# Altium schematic symbol library burr-brown (2).SCHLIB: 341 symbols (part 3 of 3)
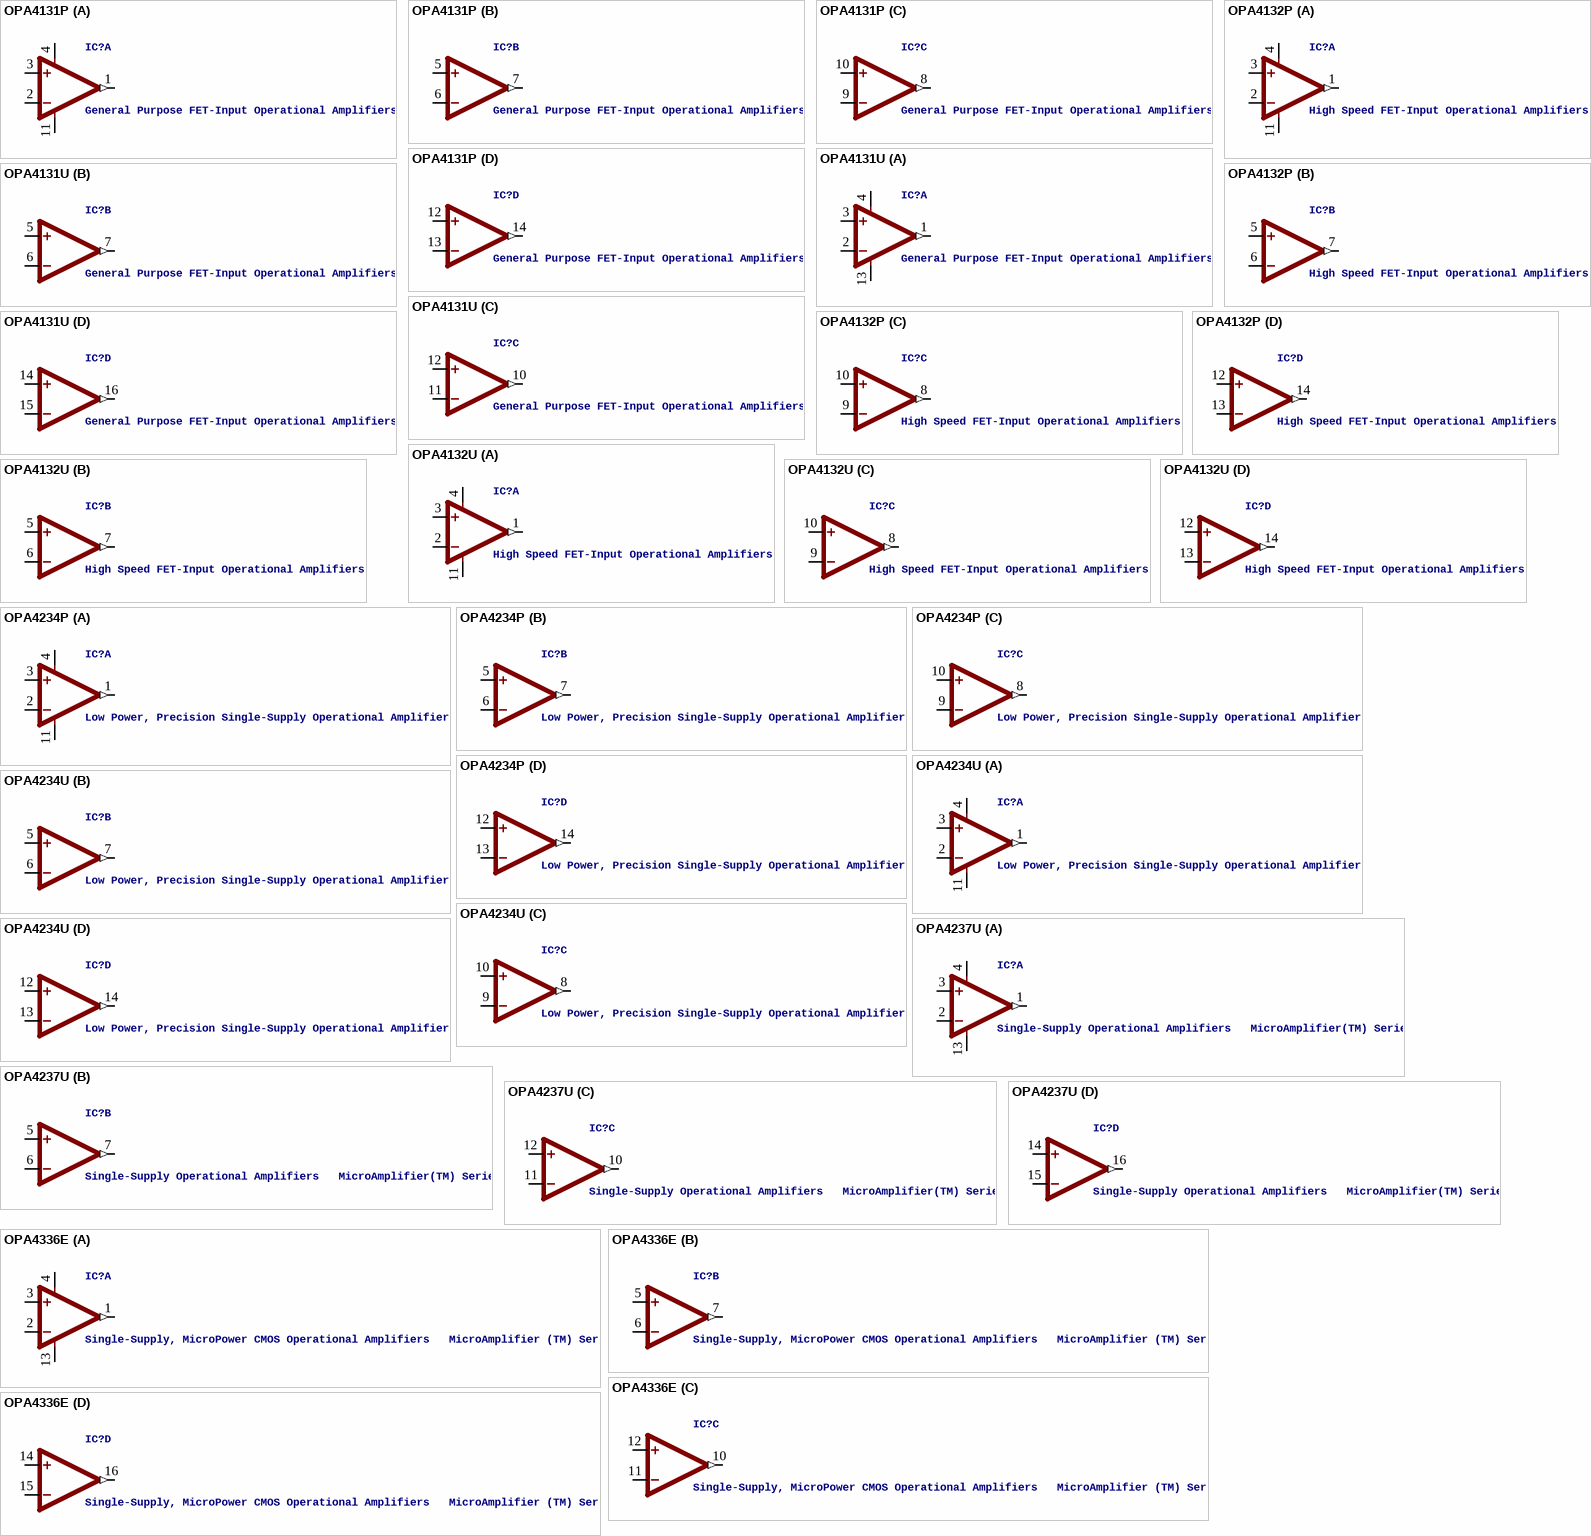
[diagram p24: symbols OPA4131P to OPA4336E]

## OPA4132U
designator IC?, comment High Speed FET-Input Operational Amplifiers
MPN: OPA4132UA; MF: TEXAS INSTRUMENTS; OC_FARNELL: 1212302; OC_NEWARK: 80K6028
footprint SO14
part A pins: 1 OUT (out), 2 -IN, 3 +IN, 4 V+ (power), 11 V- (power)
part B pins: 5 +IN, 6 -IN, 7 OUT (out)
part C pins: 8 OUT (out), 9 -IN, 10 +IN
part D pins: 12 +IN, 13 -IN, 14 OUT (out)

## OPA4234P
designator IC?, comment Low Power, Precision Single-Supply Operational Amplifiers
OC_FARNELL: unknown; OC_NEWARK: unknown
footprint DIL14
part A pins: 1 OUT (out), 2 -IN, 3 +IN, 4 V+ (power), 11 V- (power)
part B pins: 5 +IN, 6 -IN, 7 OUT (out)
part C pins: 8 OUT (out), 9 -IN, 10 +IN
part D pins: 12 +IN, 13 -IN, 14 OUT (out)

## OPA4234U
designator IC?, comment Low Power, Precision Single-Supply Operational Amplifiers
MPN: OPA4234U; MF: TEXAS INSTRUMENTS; OC_FARNELL: 1207058; OC_NEWARK: 75C4965
footprint SO14
part A pins: 1 OUT (out), 2 -IN, 3 +IN, 4 V+ (power), 11 V- (power)
part B pins: 5 +IN, 6 -IN, 7 OUT (out)
part C pins: 8 OUT (out), 9 -IN, 10 +IN
part D pins: 12 +IN, 13 -IN, 14 OUT (out)

## OPA4237U
designator IC?, comment Single-Supply Operational Amplifiers   MicroAmplifier(TM) Series
OC_FARNELL: unknown; OC_NEWARK: unknown
footprint SSOP16BU
part A pins: 1 OUT (out), 2 -IN, 3 +IN, 4 V+ (power), 13 V- (power)
part B pins: 5 +IN, 6 -IN, 7 OUT (out)
part C pins: 10 OUT (out), 11 -IN, 12 +IN
part D pins: 14 +IN, 15 -IN, 16 OUT (out)

## OPA4336E
designator IC?, comment Single-Supply, MicroPower CMOS Operational Amplifiers   MicroAmplifier (TM) Series
MPN: OPA4336EA/250; MF: TEXAS INSTRUMENTS; OC_FARNELL: 1207060; OC_NEWARK: 74K3911
footprint SSOP16BU
part A pins: 1 OUT (out), 2 -IN, 3 +IN, 4 V+ (power), 13 V- (power)
part B pins: 5 +IN, 6 -IN, 7 OUT (out)
part C pins: 10 OUT (out), 11 -IN, 12 +IN
part D pins: 14 +IN, 15 -IN, 16 OUT (out)

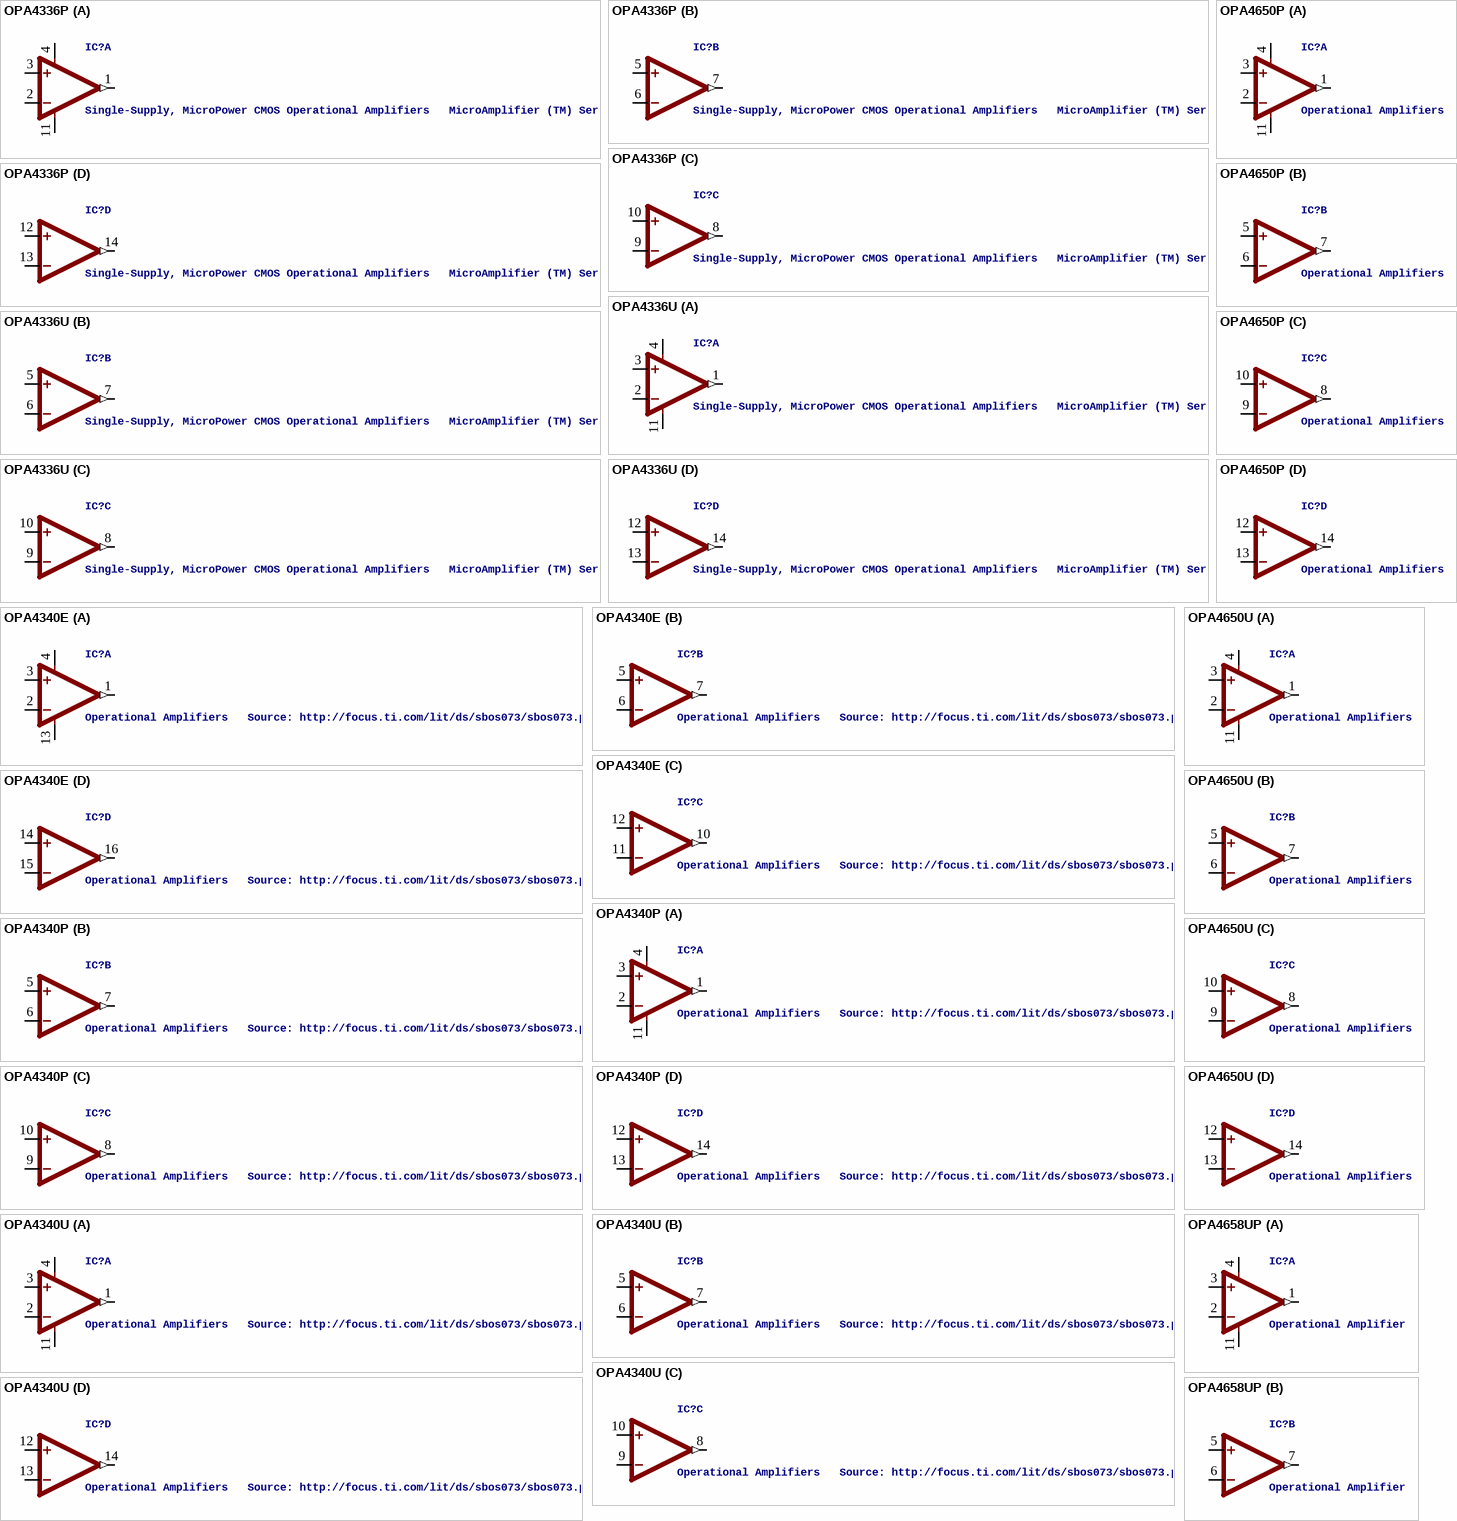
[diagram p18: symbols OPA4336P to OPA4658UP]

## OPA4336P
designator IC?, comment Single-Supply, MicroPower CMOS Operational Amplifiers   MicroAmplifier (TM) Series
OC_FARNELL: unknown; OC_NEWARK: unknown
footprint DIL14
part A pins: 1 OUT (out), 2 -IN, 3 +IN, 4 V+ (power), 11 V- (power)
part B pins: 5 +IN, 6 -IN, 7 OUT (out)
part C pins: 8 OUT (out), 9 -IN, 10 +IN
part D pins: 12 +IN, 13 -IN, 14 OUT (out)

## OPA4336U
designator IC?, comment Single-Supply, MicroPower CMOS Operational Amplifiers   MicroAmplifier (TM) Series
OC_FARNELL: unknown; OC_NEWARK: unknown
footprint SO14
part A pins: 1 OUT (out), 2 -IN, 3 +IN, 4 V+ (power), 11 V- (power)
part B pins: 5 +IN, 6 -IN, 7 OUT (out)
part C pins: 8 OUT (out), 9 -IN, 10 +IN
part D pins: 12 +IN, 13 -IN, 14 OUT (out)

## OPA4340E
designator IC?, comment Operational Amplifiers   Source: http://focus.ti.com/lit/ds/sbos073/sbos073.pdf
MPN: OPA4340EA/250G4; OC_FARNELL: 1207061; OC_NEWARK: 67K8209
footprint SSOP16BU
part A pins: 1 OUT (out), 2 -IN, 3 +IN, 4 V+ (power), 13 V- (power)
part B pins: 5 +IN, 6 -IN, 7 OUT (out)
part C pins: 10 OUT (out), 11 -IN, 12 +IN
part D pins: 14 +IN, 15 -IN, 16 OUT (out)

## OPA4340P
designator IC?, comment Operational Amplifiers   Source: http://focus.ti.com/lit/ds/sbos073/sbos073.pdf
OC_FARNELL: unknown; OC_NEWARK: unknown
footprint DIL14
part A pins: 1 OUT (out), 2 -IN, 3 +IN, 4 V+ (power), 11 V- (power)
part B pins: 5 +IN, 6 -IN, 7 OUT (out)
part C pins: 8 OUT (out), 9 -IN, 10 +IN
part D pins: 12 +IN, 13 -IN, 14 OUT (out)

## OPA4340U
designator IC?, comment Operational Amplifiers   Source: http://focus.ti.com/lit/ds/sbos073/sbos073.pdf
MPN: OPA4340UA; MF: TEXAS INSTRUMENTS; OC_FARNELL: 1212307; OC_NEWARK: 35C1907
footprint SO14
part A pins: 1 OUT (out), 2 -IN, 3 +IN, 4 V+ (power), 11 V- (power)
part B pins: 5 +IN, 6 -IN, 7 OUT (out)
part C pins: 8 OUT (out), 9 -IN, 10 +IN
part D pins: 12 +IN, 13 -IN, 14 OUT (out)

## OPA4650P
designator IC?, comment Operational Amplifiers
OC_FARNELL: unknown; OC_NEWARK: unknown
footprint DIL14
part A pins: 1 OUT (out), 2 -IN, 3 +IN, 4 V+ (power), 11 V- (power)
part B pins: 5 +IN, 6 -IN, 7 OUT (out)
part C pins: 8 OUT (out), 9 -IN, 10 +IN
part D pins: 12 +IN, 13 -IN, 14 OUT (out)

## OPA4650U
designator IC?, comment Operational Amplifiers
OC_FARNELL: unknown; OC_NEWARK: unknown
footprint SO14
part A pins: 1 OUT (out), 2 -IN, 3 +IN, 4 V+ (power), 11 V- (power)
part B pins: 5 +IN, 6 -IN, 7 OUT (out)
part C pins: 8 OUT (out), 9 -IN, 10 +IN
part D pins: 12 +IN, 13 -IN, 14 OUT (out)

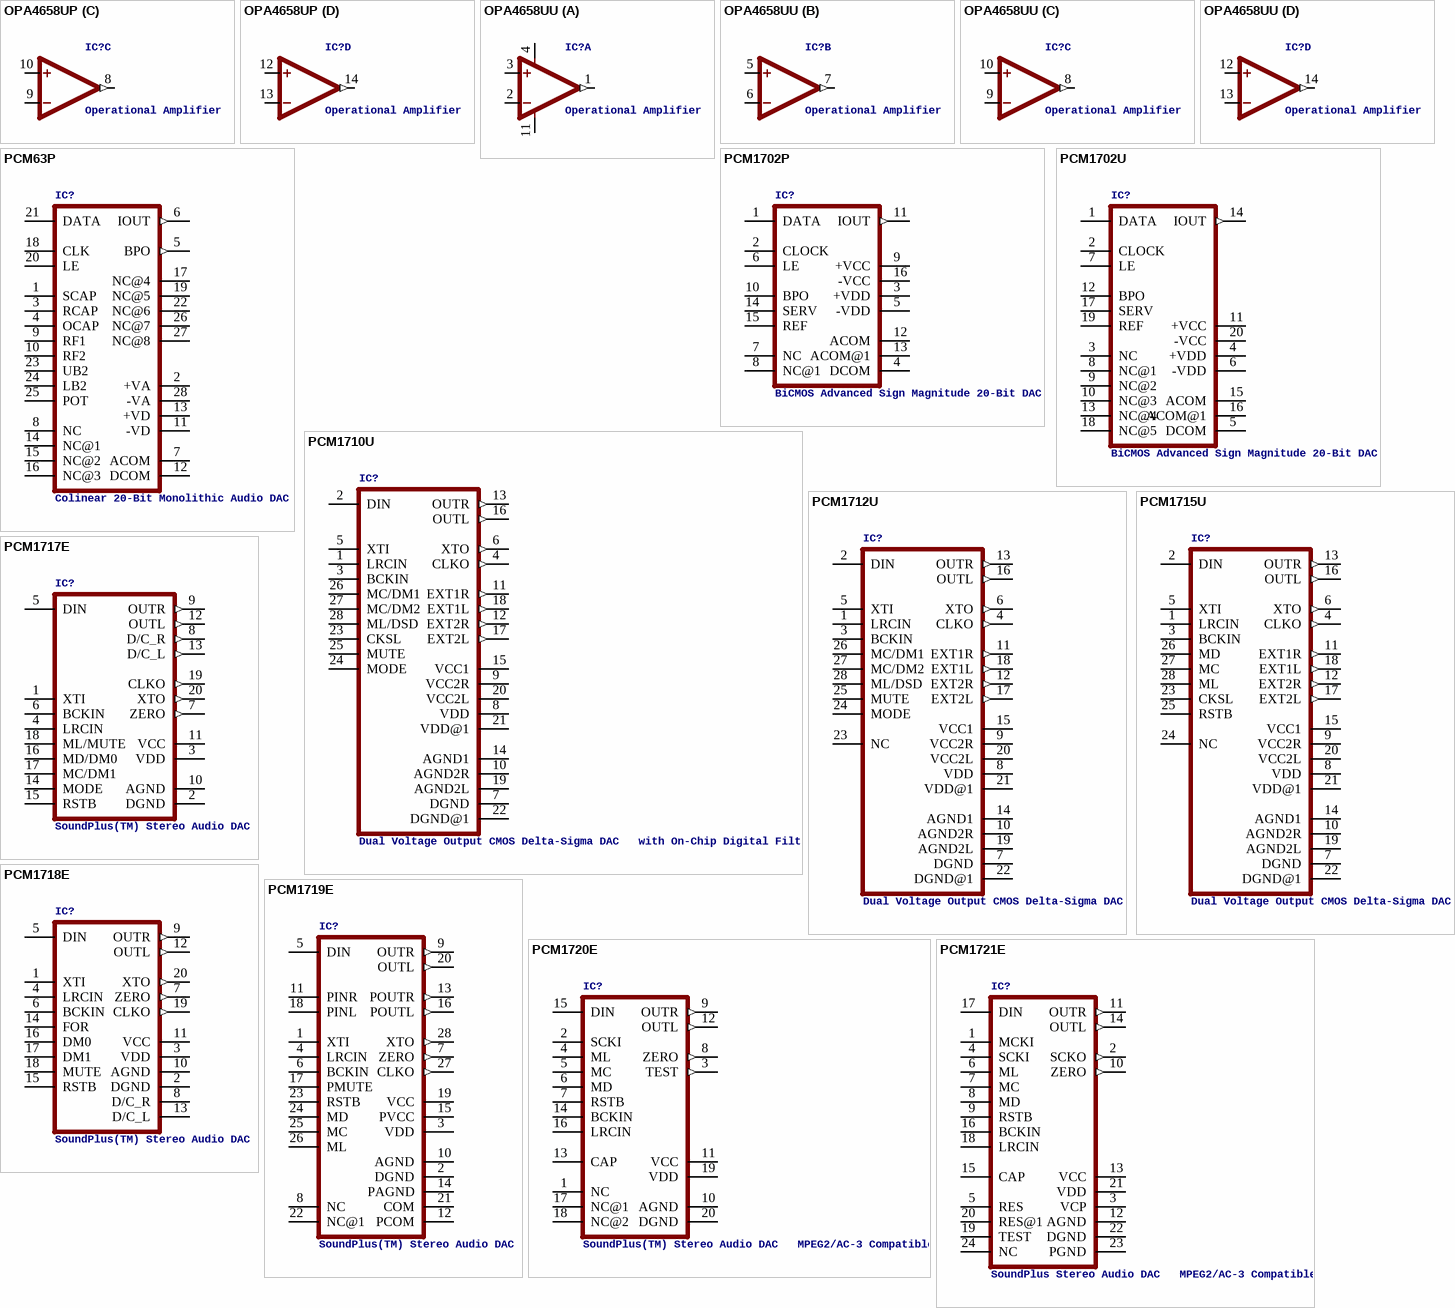
[diagram p19: symbols OPA4658UP to PCM1721E]

## OPA4658UP
designator IC?, comment Operational Amplifier
OC_FARNELL: unknown; OC_NEWARK: unknown
footprint DIL14
part A pins: 1 OUT (out), 2 -IN, 3 +IN, 4 V+ (power), 11 V- (power)
part B pins: 5 +IN, 6 -IN, 7 OUT (out)
part C pins: 8 OUT (out), 9 -IN, 10 +IN
part D pins: 12 +IN, 13 -IN, 14 OUT (out)

## OPA4658UU
designator IC?, comment Operational Amplifier
OC_FARNELL: unknown; OC_NEWARK: unknown
footprint SO14
part A pins: 1 OUT (out), 2 -IN, 3 +IN, 4 V+ (power), 11 V- (power)
part B pins: 5 +IN, 6 -IN, 7 OUT (out)
part C pins: 8 OUT (out), 9 -IN, 10 +IN
part D pins: 12 +IN, 13 -IN, 14 OUT (out)

## PCM63P
designator IC?, comment Colinear 20-Bit Monolithic Audio DAC
OC_FARNELL: unknown; OC_NEWARK: unknown
footprint DIL28
pins: 1 SCAP, 2 +VA (power), 3 RCAP, 4 OCAP, 5 BPO (out), 6 IOUT (out), 7 ACOM (power), 8 NC, 9 RF1, 10 RF2, 11 -VD (power), 12 DCOM (power), 13 +VD (power), 14 NC@1, 15 NC@2, 16 NC@3, 17 NC@4, 18 CLK, 19 NC@5, 20 LE, 21 DATA, 22 NC@6, 23 UB2, 24 LB2, 25 POT, 26 NC@7, 27 NC@8, 28 -VA (power)

## PCM1702P
designator IC?, comment BiCMOS Advanced Sign Magnitude 20-Bit DAC
MPN: PCM1702P-J; MF: TEXAS INSTRUMENT CONNECTORS; OC_FARNELL: 1509912; OC_NEWARK: 75C5298
footprint DIL16
pins: 1 DATA, 2 CLOCK, 3 +VDD (power), 4 DCOM (power), 5 -VDD (power), 6 LE, 7 NC, 8 NC@1, 9 +VCC (power), 10 BPO, 11 IOUT (out), 12 ACOM (power), 13 ACOM@1 (power), 14 SERV, 15 REF, 16 -VCC (power)

## PCM1702U
designator IC?, comment BiCMOS Advanced Sign Magnitude 20-Bit DAC
MPN: PCM1702U; MF: TEXAS INSTRUMENT CONNECTORS; OC_FARNELL: 1509914; OC_NEWARK: 75C5299
footprint SO20L
pins: 1 DATA, 2 CLOCK, 3 NC, 4 +VDD (power), 5 DCOM (power), 6 -VDD (power), 7 LE, 8 NC@1, 9 NC@2, 10 NC@3, 11 +VCC (power), 12 BPO, 13 NC@4, 14 IOUT (out), 15 ACOM (power), 16 ACOM@1 (power), 17 SERV, 18 NC@5, 19 REF, 20 -VCC (power)

## PCM1710U
designator IC?, comment Dual Voltage Output CMOS Delta-Sigma DAC   with On-Chip Digital Filter
MPN: PCM1710U; MF: TEXAS INSTRUMENT CONNECTORS; OC_FARNELL: 1212857; OC_NEWARK: 75C5309
footprint SO28-3
pins: 1 LRCIN, 2 DIN, 3 BCKIN, 4 CLKO (out), 5 XTI, 6 XTO (out), 7 DGND (power), 8 VDD (power), 9 VCC2R (power), 10 AGND2R (power), 11 EXT1R (out), 12 EXT2R (out), 13 OUTR (out), 14 AGND1 (power), 15 VCC1 (power), 16 OUTL (out), 17 EXT2L (out), 18 EXT1L (out), 19 AGND2L (power), 20 VCC2L (power), 21 VDD@1 (power), 22 DGND@1 (power), 23 CKSL, 24 MODE, 25 MUTE, 26 MC/DM1, 27 MC/DM2, 28 ML/DSD

## PCM1712U
designator IC?, comment Dual Voltage Output CMOS Delta-Sigma DAC
OC_FARNELL: unknown; OC_NEWARK: unknown
footprint SO28-3
pins: 1 LRCIN, 2 DIN, 3 BCKIN, 4 CLKO (out), 5 XTI, 6 XTO (out), 7 DGND (power), 8 VDD (power), 9 VCC2R (power), 10 AGND2R (power), 11 EXT1R (out), 12 EXT2R (out), 13 OUTR (out), 14 AGND1 (power), 15 VCC1 (power), 16 OUTL (out), 17 EXT2L (out), 18 EXT1L (out), 19 AGND2L (power), 20 VCC2L (power), 21 VDD@1 (power), 22 DGND@1 (power), 23 NC, 24 MODE, 25 MUTE, 26 MC/DM1, 27 MC/DM2, 28 ML/DSD

## PCM1715U
designator IC?, comment Dual Voltage Output CMOS Delta-Sigma DAC
OC_FARNELL: unknown; OC_NEWARK: unknown
footprint SOJ28-4
pins: 1 LRCIN, 2 DIN, 3 BCKIN, 4 CLKO (out), 5 XTI, 6 XTO (out), 7 DGND (power), 8 VDD (power), 9 VCC2R (power), 10 AGND2R (power), 11 EXT1R (out), 12 EXT2R (out), 13 OUTR (out), 14 AGND1 (power), 15 VCC1 (power), 16 OUTL (out), 17 EXT2L (out), 18 EXT1L (out), 19 AGND2L (power), 20 VCC2L (power), 21 VDD@1 (power), 22 DGND@1 (power), 23 CKSL, 24 NC, 25 RSTB, 26 MD, 27 MC, 28 ML

## PCM1717E
designator IC?, comment SoundPlus(TM) Stereo Audio DAC
MPN: PCM1717E; MF: TEXAS INSTRUMENTS; OC_FARNELL: unknown; OC_NEWARK: 34K8595
footprint SSOP20BU
pins: 1 XTI, 2 DGND (power), 3 VDD (power), 4 LRCIN, 5 DIN, 6 BCKIN, 7 ZERO (out), 8 D/C_R (out), 9 OUTR (out), 10 AGND (power), 11 VCC (power), 12 OUTL (out), 13 D/C_L (out), 14 MODE, 15 RSTB, 16 MD/DM0, 17 MC/DM1, 18 ML/MUTE, 19 CLKO (out), 20 XTO (out)

## PCM1718E
designator IC?, comment SoundPlus(TM) Stereo Audio DAC
MPN: PCM1718E; MF: TEXAS INSTRUMENT CONNECTORS; OC_FARNELL: unknown; OC_NEWARK: 35C1942
footprint SSOP20DB
pins: 1 XTI, 2 DGND (power), 3 VDD (power), 4 LRCIN, 5 DIN, 6 BCKIN, 7 ZERO (out), 8 D/C_R (power), 9 OUTR (out), 10 AGND (power), 11 VCC (power), 12 OUTL (out), 13 D/C_L (power), 14 FOR, 15 RSTB, 16 DM0, 17 DM1, 18 MUTE, 19 CLKO (out), 20 XTO (out)

## PCM1719E
designator IC?, comment SoundPlus(TM) Stereo Audio DAC
MPN: PCM1719E/2KG4; OC_FARNELL: unknown; OC_NEWARK: 67K8259
footprint SSOP28BU
pins: 1 XTI, 2 DGND (power), 3 VDD (power), 4 LRCIN, 5 DIN, 6 BCKIN, 7 ZERO (out), 8 NC, 9 OUTR (out), 10 AGND (power), 11 PINR, 12 PCOM (power), 13 POUTR (out), 14 PAGND (power), 15 PVCC (power), 16 POUTL (out), 17 PMUTE, 18 PINL, 19 VCC (power), 20 OUTL (out), 21 COM (power), 22 NC@1, 23 RSTB, 24 MD, 25 MC, 26 ML, 27 CLKO (out), 28 XTO (out)

## PCM1720E
designator IC?, comment SoundPlus(TM) Stereo Audio DAC   MPEG2/AC-3 Compatible
MPN: PCM1720E/2KG4; OC_FARNELL: unknown; OC_NEWARK: 66K4045
footprint SSOP20BU
pins: 1 NC, 2 SCKI, 3 TEST (out), 4 ML, 5 MC, 6 MD, 7 RSTB, 8 ZERO (out), 9 OUTR (out), 10 AGND (power), 11 VCC (power), 12 OUTL (out), 13 CAP, 14 BCKIN, 15 DIN, 16 LRCIN, 17 NC@1, 18 NC@2, 19 VDD (power), 20 DGND (power)

## PCM1721E
designator IC?, comment SoundPlus Stereo Audio DAC   MPEG2/AC-3 Compatible
OC_FARNELL: unknown; OC_NEWARK: unknown
footprint SSOP24BU
pins: 1 MCKI, 2 SCKO (out), 3 VCP (power), 4 SCKI, 5 RES, 6 ML, 7 MC, 8 MD, 9 RSTB, 10 ZERO (out), 11 OUTR (out), 12 AGND (power), 13 VCC (power), 14 OUTL (out), 15 CAP, 16 BCKIN, 17 DIN, 18 LRCIN, 19 TEST, 20 RES@1, 21 VDD (power), 22 DGND (power), 23 PGND (power), 24 NC

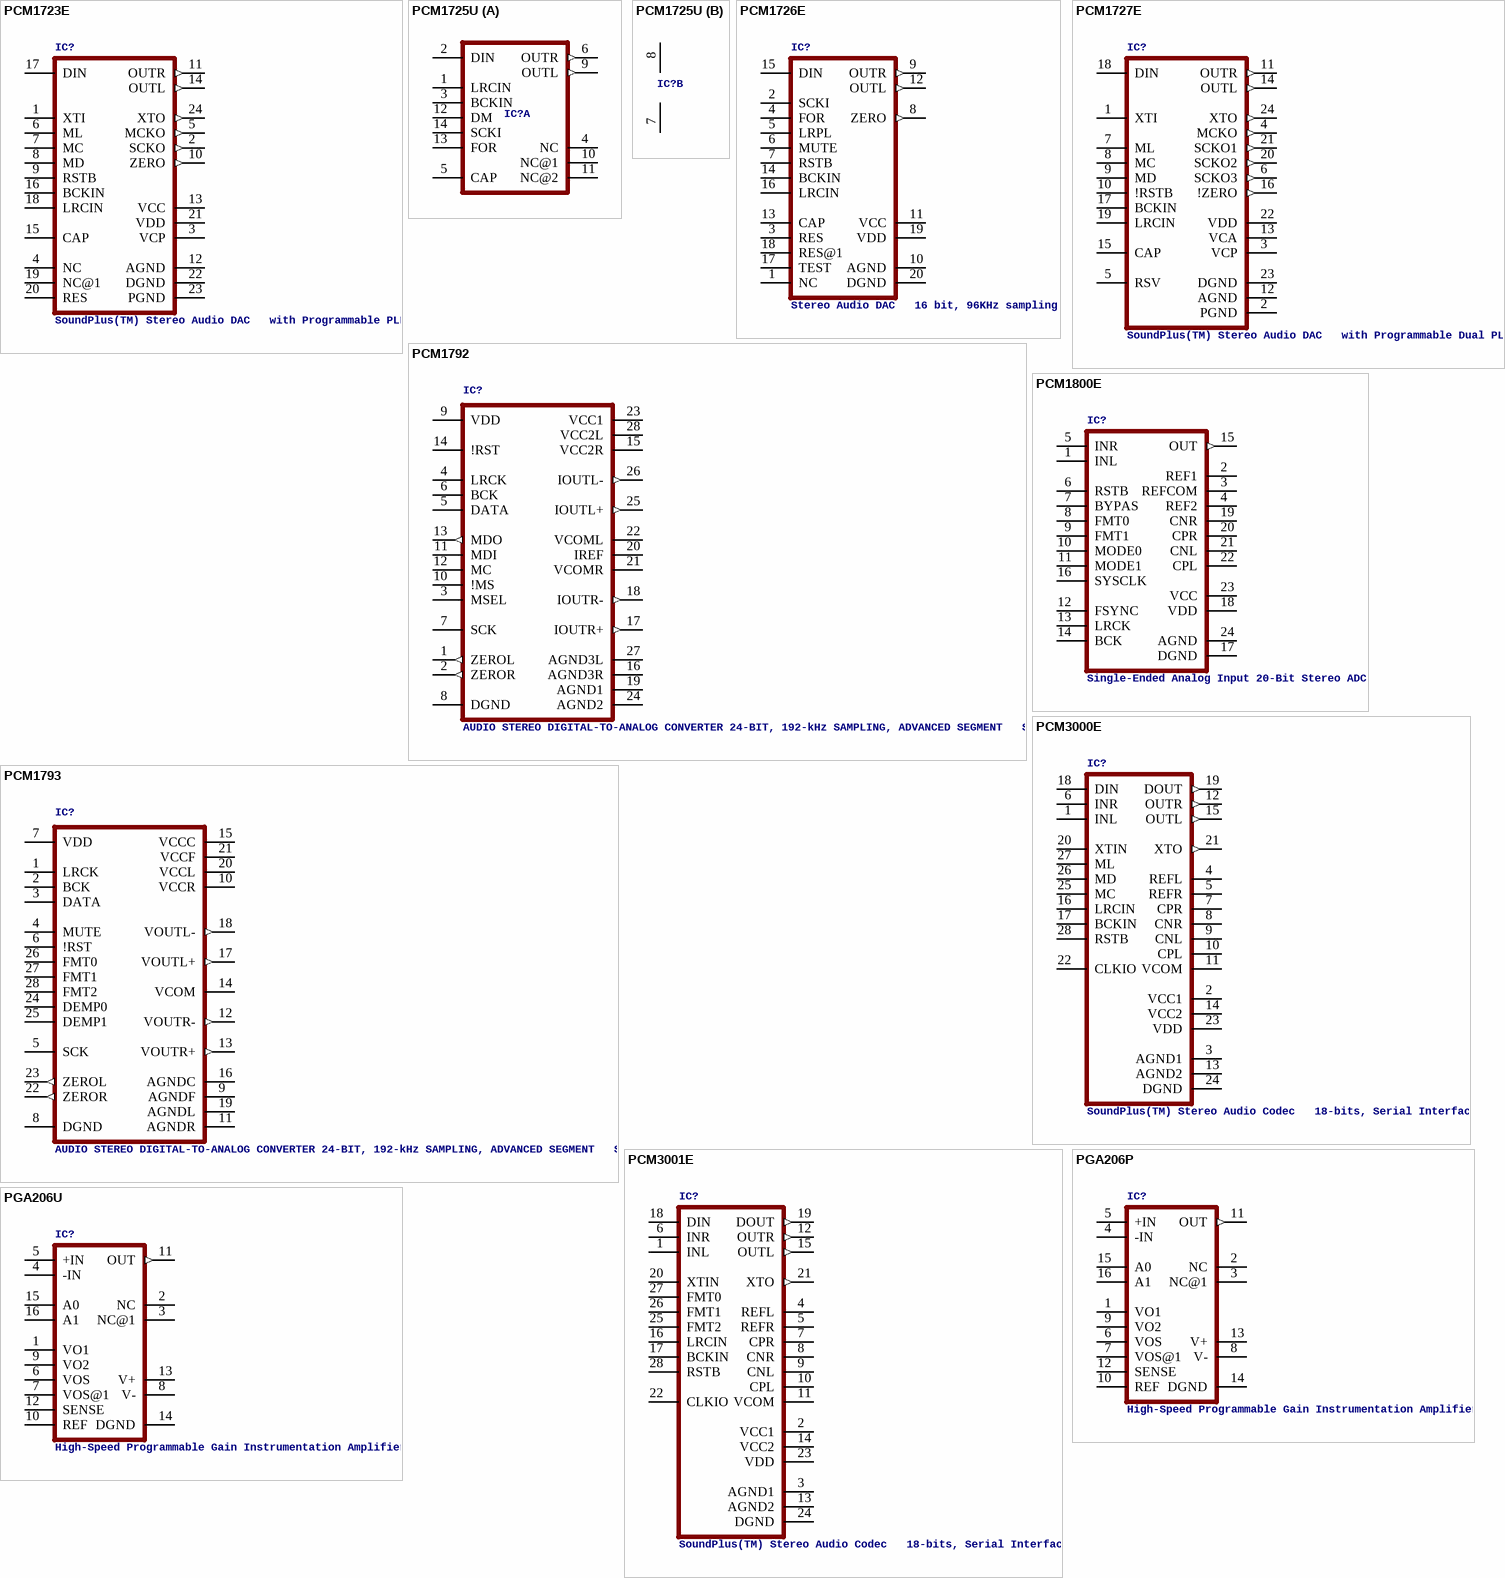
[diagram p20: symbols PCM1723E to PGA206U]

## PCM1723E
designator IC?, comment SoundPlus(TM) Stereo Audio DAC   with Programmable PLL
MPN: PCM1723EG4; OC_FARNELL: 1234896; OC_NEWARK: 66K4046
footprint SSOP24BU
pins: 1 XTI, 2 SCKO (out), 3 VCP (power), 4 NC, 5 MCKO (out), 6 ML, 7 MC, 8 MD, 9 RSTB, 10 ZERO (out), 11 OUTR (out), 12 AGND (power), 13 VCC (power), 14 OUTL (out), 15 CAP, 16 BCKIN, 17 DIN, 18 LRCIN, 19 NC@1, 20 RES, 21 VDD (power), 22 DGND (power), 23 PGND (power), 24 XTO (out)

## PCM1725U
designator IC?, comment SoundPlus(TM) Stereo Audio DAConverter   16 Bits, 96kHz Sampling  (value not drawn)
MPN: PCM1725U; MF: TEXAS INSTRUMENTS; OC_FARNELL: unknown; OC_NEWARK: 34K8597
footprint SO14
part A pins: 1 LRCIN, 2 DIN, 3 BCKIN, 4 NC, 5 CAP, 6 OUTR (out), 9 OUTL (out), 10 NC@1, 11 NC@2, 12 DM, 13 FOR, 14 SCKI
part B pins: 7 GND (power), 8 VCC (power)

## PCM1726E
designator IC?, comment Stereo Audio DAC   16 bit, 96KHz sampling
OC_FARNELL: unknown; OC_NEWARK: unknown
footprint SSOP20BU
pins: 1 NC, 2 SCKI, 3 RES, 4 FOR, 5 LRPL, 6 MUTE, 7 RSTB, 8 ZERO (out), 9 OUTR (out), 10 AGND (power), 11 VCC (power), 12 OUTL (out), 13 CAP, 14 BCKIN, 15 DIN, 16 LRCIN, 17 TEST, 18 RES@1, 19 VDD (power), 20 DGND (power)

## PCM1727E
designator IC?, comment SoundPlus(TM) Stereo Audio DAC   with Programmable Dual PLL
MPN: PCM1727E; MF: TEXAS INSTRUMENT CONNECTORS; OC_FARNELL: 1408314; OC_NEWARK: 75C5319
footprint SSOP24BU
pins: 1 XTI, 2 PGND (power), 3 VCP (power), 4 MCKO (out), 5 RSV, 6 SCKO3 (out), 7 ML, 8 MC, 9 MD, 10 !RSTB, 11 OUTR (out), 12 AGND (power), 13 VCA (power), 14 OUTL (out), 15 CAP, 16 !ZERO (out), 17 BCKIN, 18 DIN, 19 LRCIN, 20 SCKO2 (out), 21 SCKO1 (out), 22 VDD (power), 23 DGND (power), 24 XTO (out)

## PCM1792
designator IC?, comment AUDIO STEREO DIGITAL-TO-ANALOG CONVERTER 24-BIT, 192-kHz SAMPLING, ADVANCED SEGMENT   Source: http://focus.ti.com/lit/ds/symlink/pcm1792.pdf
MPN: PCM1792DBG4; OC_FARNELL: 1408321; OC_NEWARK: 06M7578
footprint SSOP28BU
pins: 1 ZEROL (out), 2 ZEROR (out), 3 MSEL, 4 LRCK, 5 DATA, 6 BCK, 7 SCK, 8 DGND (power), 9 VDD (power), 10 !MS, 11 MDI, 12 MC, 13 MDO (out), 14 !RST, 15 VCC2R (power), 16 AGND3R (power), 17 IOUTR+ (out), 18 IOUTR- (out), 19 AGND1 (power), 20 IREF, 21 VCOMR, 22 VCOML, 23 VCC1 (power), 24 AGND2 (power), 25 IOUTL+ (out), 26 IOUTL- (out), 27 AGND3L (power), 28 VCC2L (power)

## PCM1793
designator IC?, comment AUDIO STEREO DIGITAL-TO-ANALOG CONVERTER 24-BIT, 192-kHz SAMPLING, ADVANCED SEGMENT   Source: http://focus.ti.com/lit/ds/symlink/pcm1793.pdf
MPN: PCM1793DBR; MF: TEXAS INSTRUMENT CONNECTORS; OC_FARNELL: 1408322; OC_NEWARK: 61H5174
footprint SSOP28BU
pins: 1 LRCK, 2 BCK, 3 DATA, 4 MUTE, 5 SCK, 6 !RST, 7 VDD (power), 8 DGND (power), 9 AGNDF (power), 10 VCCR (power), 11 AGNDR (power), 12 VOUTR- (out), 13 VOUTR+ (out), 14 VCOM, 15 VCCC (power), 16 AGNDC (power), 17 VOUTL+ (out), 18 VOUTL- (out), 19 AGNDL (power), 20 VCCL (power), 21 VCCF (power), 22 ZEROR (out), 23 ZEROL (out), 24 DEMP0, 25 DEMP1, 26 FMT0, 27 FMT1, 28 FMT2

## PCM1800E
designator IC?, comment Single-Ended Analog Input 20-Bit Stereo ADC
MPN: PCM1800E; MF: TEXAS INSTRUMENTS; OC_FARNELL: 1648631; OC_NEWARK: 34K8598
footprint SSOP24BU
pins: 1 INL, 2 REF1, 3 REFCOM, 4 REF2, 5 INR, 6 RSTB, 7 BYPAS, 8 FMT0, 9 FMT1, 10 MODE0, 11 MODE1, 12 FSYNC, 13 LRCK, 14 BCK, 15 OUT (out), 16 SYSCLK, 17 DGND (power), 18 VDD (power), 19 CNR, 20 CPR, 21 CNL, 22 CPL, 23 VCC (power), 24 AGND (power)

## PCM3000E
designator IC?, comment SoundPlus(TM) Stereo Audio Codec   18-bits, Serial Interface
MPN: PCM3000E/2KG4; OC_FARNELL: unknown; OC_NEWARK: 67K8276
footprint SSOP28BU
pins: 1 INL, 2 VCC1 (power), 3 AGND1 (power), 4 REFL, 5 REFR, 6 INR, 7 CPR, 8 CNR, 9 CNL, 10 CPL, 11 VCOM, 12 OUTR (out), 13 AGND2 (power), 14 VCC2 (power), 15 OUTL (out), 16 LRCIN, 17 BCKIN, 18 DIN, 19 DOUT (out), 20 XTIN, 21 XTO (out), 22 CLKIO, 23 VDD (power), 24 DGND (power), 25 MC, 26 MD, 27 ML, 28 RSTB

## PCM3001E
designator IC?, comment SoundPlus(TM) Stereo Audio Codec   18-bits, Serial Interface
MPN: PCM3001E; MF: TEXAS INSTRUMENTS; OC_FARNELL: unknown; OC_NEWARK: 34K8600
footprint SSOP28BU
pins: 1 INL, 2 VCC1 (power), 3 AGND1 (power), 4 REFL, 5 REFR, 6 INR, 7 CPR, 8 CNR, 9 CNL, 10 CPL, 11 VCOM, 12 OUTR (out), 13 AGND2 (power), 14 VCC2 (power), 15 OUTL (out), 16 LRCIN, 17 BCKIN, 18 DIN, 19 DOUT (out), 20 XTIN, 21 XTO (out), 22 CLKIO, 23 VDD (power), 24 DGND (power), 25 FMT2, 26 FMT1, 27 FMT0, 28 RSTB

## PGA206P
designator IC?, comment High-Speed Programmable Gain Instrumentation Amplifier
MPN: PGA206PA; MF: TEXAS INSTRUMENT CONNECTORS; OC_FARNELL: 1470400; OC_NEWARK: 75C5426
footprint DIL16
pins: 1 VO1, 2 NC, 3 NC@1, 4 -IN, 5 +IN, 6 VOS, 7 VOS@1, 8 V- (power), 9 VO2, 10 REF, 11 OUT (out), 12 SENSE, 13 V+ (power), 14 DGND (power), 15 A0, 16 A1

## PGA206U
designator IC?, comment High-Speed Programmable Gain Instrumentation Amplifier
MPN: PGA206UA; MF: TEXAS INSTRUMENTS; OC_FARNELL: unknown; OC_NEWARK: 35C1960
footprint SO16-1
pins: 1 VO1, 2 NC, 3 NC@1, 4 -IN, 5 +IN, 6 VOS, 7 VOS@1, 8 V- (power), 9 VO2, 10 REF, 11 OUT (out), 12 SENSE, 13 V+ (power), 14 DGND (power), 15 A0, 16 A1

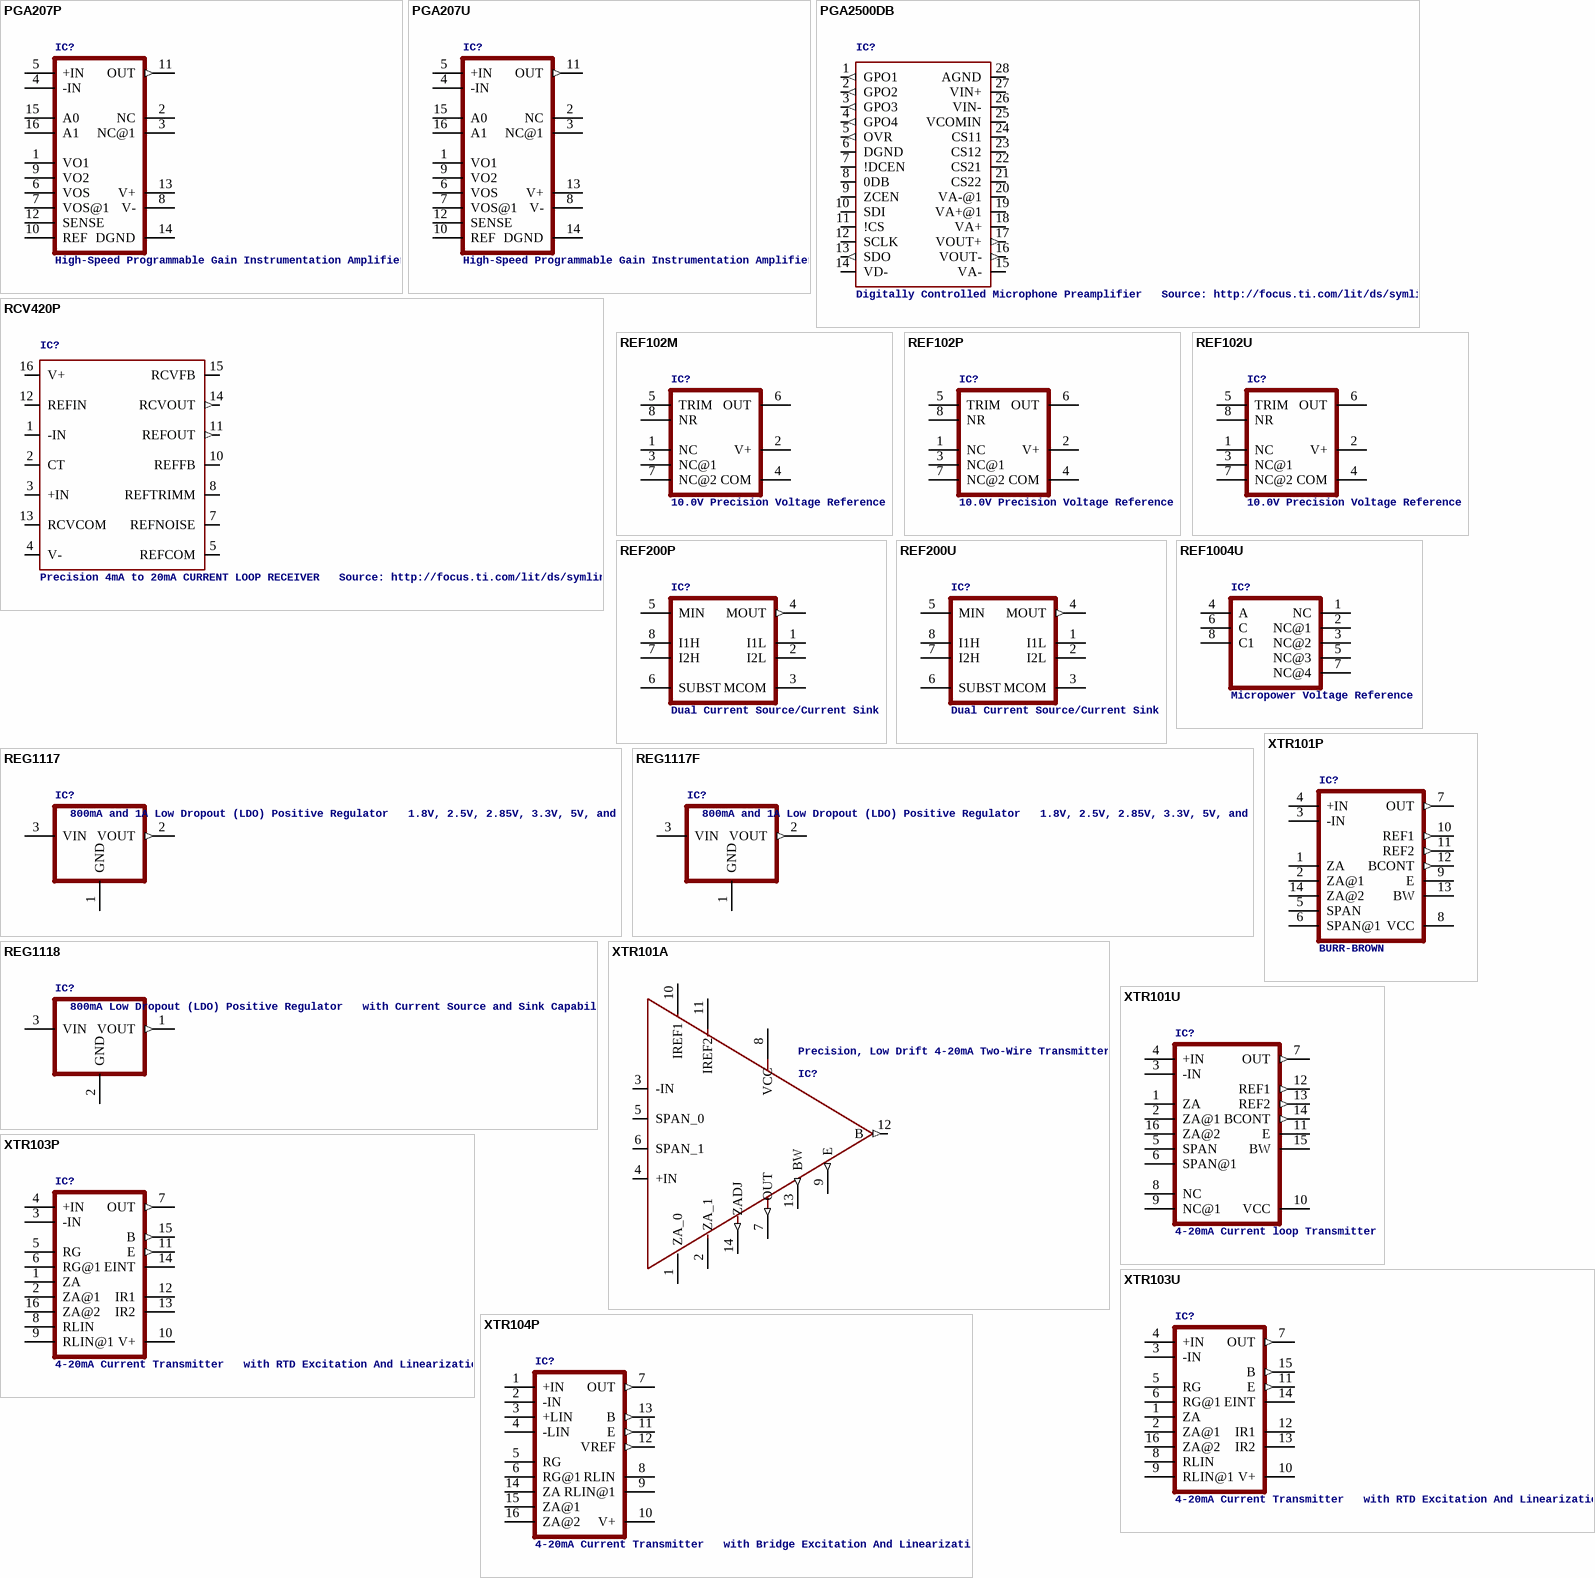
[diagram p21: symbols PGA207P to XTR104P]

## PGA207P
designator IC?, comment High-Speed Programmable Gain Instrumentation Amplifier
OC_FARNELL: unknown; OC_NEWARK: unknown
footprint DIL16
pins: 1 VO1, 2 NC, 3 NC@1, 4 -IN, 5 +IN, 6 VOS, 7 VOS@1, 8 V- (power), 9 VO2, 10 REF, 11 OUT (out), 12 SENSE, 13 V+ (power), 14 DGND (power), 15 A0, 16 A1

## PGA207U
designator IC?, comment High-Speed Programmable Gain Instrumentation Amplifier
MPN: PGA207UA; MF: TEXAS INSTRUMENTS; OC_FARNELL: 1212338; OC_NEWARK: 75C5427
footprint SO16-1
pins: 1 VO1, 2 NC, 3 NC@1, 4 -IN, 5 +IN, 6 VOS, 7 VOS@1, 8 V- (power), 9 VO2, 10 REF, 11 OUT (out), 12 SENSE, 13 V+ (power), 14 DGND (power), 15 A0, 16 A1

## PGA2500DB
designator IC?, comment Digitally Controlled Microphone Preamplifier   Source: http://focus.ti.com/lit/ds/symlink/pga2500.pdf
OC_FARNELL: unknown; OC_NEWARK: unknown
footprint DB_R-PDSO-G28
pins: 1 GPO1 (out), 2 GPO2 (out), 3 GPO3 (out), 4 GPO4 (out), 5 OVR (out), 6 DGND (power), 7 !DCEN, 8 0DB, 9 ZCEN, 10 SDI, 11 !CS, 12 SCLK, 13 SDO (out), 14 VD- (power), 15 VA- (power), 16 VOUT- (out), 17 VOUT+ (out), 18 VA+ (power), 19 VA+@1 (power), 20 VA-@1 (power), 21 CS22, 22 CS21, 23 CS12, 24 CS11, 25 VCOMIN (power), 26 VIN-, 27 VIN+, 28 AGND (power)

## RCV420P
designator IC?, comment Precision 4mA to 20mA CURRENT LOOP RECEIVER   Source: http://focus.ti.com/lit/ds/symlink/rcv420.pdf
MPN: RCV420JP; MF: TEXAS INSTRUMENTS; OC_FARNELL: 1212342; OC_NEWARK: 60K6765
footprint DIL16
pins: 1 -IN, 2 CT, 3 +IN, 4 V-, 5 REFCOM, 7 REFNOISE, 8 REFTRIMM, 10 REFFB, 11 REFOUT (out), 12 REFIN, 13 RCVCOM, 14 RCVOUT (out), 15 RCVFB, 16 V+

## REF102M
designator IC?, comment 10.0V Precision Voltage Reference
OC_FARNELL: unknown; OC_NEWARK: unknown
footprint TO99
pins: 1 NC, 2 V+ (power), 3 NC@1, 4 COM (power), 5 TRIM, 6 OUT, 7 NC@2, 8 NR

## REF102P
designator IC?, comment 10.0V Precision Voltage Reference
MPN: REF102AP; MF: TEXAS INSTRUMENTS; OC_FARNELL: 1097429; OC_NEWARK: 10M5244
footprint DIL08
pins: 1 NC, 2 V+ (power), 3 NC@1, 4 COM (power), 5 TRIM, 6 OUT, 7 NC@2, 8 NR

## REF102U
designator IC?, comment 10.0V Precision Voltage Reference
MPN: REF102AU; MF: TEXAS INSTRUMENTS; OC_FARNELL: 1212344; OC_NEWARK: 04M4600
footprint SO08
pins: 1 NC, 2 V+ (power), 3 NC@1, 4 COM (power), 5 TRIM, 6 OUT, 7 NC@2, 8 NR

## REF200P
designator IC?, comment Dual Current Source/Current Sink
OC_FARNELL: unknown; OC_NEWARK: unknown
footprint DIL08
pins: 1 I1L, 2 I2L, 3 MCOM, 4 MOUT (out), 5 MIN, 6 SUBST, 7 I2H, 8 I1H

## REF200U
designator IC?, comment Dual Current Source/Current Sink
MPN: REF200AU; MF: TEXAS INSTRUMENTS; OC_FARNELL: 1207240; OC_NEWARK: 34C7615
footprint SO08
pins: 1 I1L, 2 I2L, 3 MCOM, 4 MOUT (out), 5 MIN, 6 SUBST, 7 I2H, 8 I1H

## REF1004U
designator IC?, comment Micropower Voltage Reference
MPN: REF1004C-1.2; MF: TEXAS INSTRUMENTS; OC_FARNELL: 1296022; OC_NEWARK: 75C7399
footprint SO08
pins: 1 NC, 2 NC@1, 3 NC@2, 4 A, 5 NC@3, 6 C, 7 NC@4, 8 C1

## REG1117
designator IC?, comment 800mA and 1A Low Dropout (LDO) Positive Regulator   1.8V, 2.5V, 2.85V, 3.3V, 5V, and Adj
MPN: REG1117; OC_FARNELL: 1097566; OC_NEWARK: 14P6981
footprint SOT223
pins: 1 GND (power), 2 VOUT (out), 3 VIN

## REG1117F
designator IC?, comment 800mA and 1A Low Dropout (LDO) Positive Regulator   1.8V, 2.5V, 2.85V, 3.3V, 5V, and Adj
MPN: REG1117FAKTTT; MF: TEXAS INSTRUMENTS; OC_FARNELL: 1296120; OC_NEWARK: 87H2562
footprint DD-3
pins: 1 GND (power), 2 VOUT (out), 3 VIN

## REG1118
designator IC?, comment 800mA Low Dropout (LDO) Positive Regulator   with Current Source and Sink Capability
MPN: REG1118-2.85/2K5G4; OC_FARNELL: unknown; OC_NEWARK: 14M2185
footprint SOT223
pins: 1 VOUT (out), 2 GND (power), 3 VIN

## XTR101A
designator IC?, comment Precision, Low Drift 4-20mA Two-Wire Transmitter
MPN: XTR101AP; MF: TEXAS INSTRUMENTS; OC_FARNELL: 1648756; OC_NEWARK: 84K4518
footprint DIL14
pins: 1 ZA_0, 2 ZA_1, 3 -IN, 4 +IN, 5 SPAN_0, 6 SPAN_1, 7 OUT (out), 8 VCC (power), 9 E (out), 10 IREF1, 11 IREF2, 12 B (out), 13 BW (out), 14 ZADJ (out)

## XTR101P
designator IC?, comment BURR-BROWN
MPN: XTR101AP; MF: TEXAS INSTRUMENTS; OC_FARNELL: 1648756; OC_NEWARK: 84K4518
footprint DIL14
pins: 1 ZA, 2 ZA@1, 3 -IN, 4 +IN, 5 SPAN (power), 6 SPAN@1 (power), 7 OUT (out), 8 VCC (power), 9 E, 10 REF1 (out), 11 REF2 (out), 12 BCONT (out), 13 BW, 14 ZA@2 (power)

## XTR101U
designator IC?, comment 4-20mA Current loop Transmitter
MPN: XTR101AU; MF: TEXAS INSTRUMENTS; OC_FARNELL: 6543315; OC_NEWARK: 77C3626
footprint SO16-1
pins: 1 ZA, 2 ZA@1, 3 -IN, 4 +IN, 5 SPAN (power), 6 SPAN@1 (power), 7 OUT (out), 8 NC, 9 NC@1, 10 VCC (power), 11 E, 12 REF1 (out), 13 REF2 (out), 14 BCONT (out), 15 BW, 16 ZA@2 (power)

## XTR103P
designator IC?, comment 4-20mA Current Transmitter   with RTD Excitation And Linearization
OC_FARNELL: unknown; OC_NEWARK: unknown
footprint DIL16
pins: 1 ZA, 2 ZA@1, 3 -IN, 4 +IN, 5 RG, 6 RG@1, 7 OUT (out), 8 RLIN, 9 RLIN@1, 10 V+ (power), 11 E (out), 12 IR1, 13 IR2, 14 EINT, 15 B (out), 16 ZA@2

## XTR103U
designator IC?, comment 4-20mA Current Transmitter   with RTD Excitation And Linearization
OC_FARNELL: unknown; OC_NEWARK: unknown
footprint SO16-1
pins: 1 ZA, 2 ZA@1, 3 -IN, 4 +IN, 5 RG, 6 RG@1, 7 OUT (out), 8 RLIN, 9 RLIN@1, 10 V+ (power), 11 E (out), 12 IR1, 13 IR2, 14 EINT, 15 B (out), 16 ZA@2

## XTR104P
designator IC?, comment 4-20mA Current Transmitter   with Bridge Excitation And Linearization
OC_FARNELL: unknown; OC_NEWARK: unknown
footprint DIL16
pins: 1 +IN, 2 -IN, 3 +LIN, 4 -LIN, 5 RG, 6 RG@1, 7 OUT (out), 8 RLIN, 9 RLIN@1, 10 V+ (power), 11 E (out), 12 VREF (out), 13 B (out), 14 ZA, 15 ZA@1, 16 ZA@2

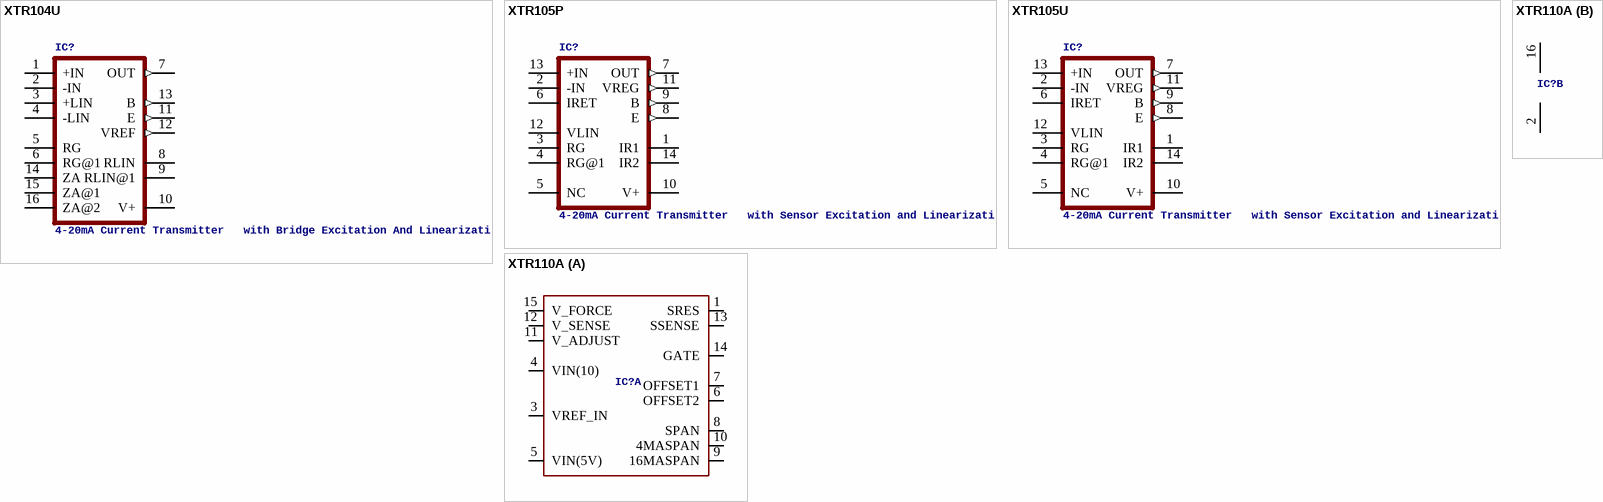
[diagram p22: symbols XTR104U to XTR110A]

## XTR104U
designator IC?, comment 4-20mA Current Transmitter   with Bridge Excitation And Linearization
OC_FARNELL: unknown; OC_NEWARK: unknown
footprint SO16-1
pins: 1 +IN, 2 -IN, 3 +LIN, 4 -LIN, 5 RG, 6 RG@1, 7 OUT (out), 8 RLIN, 9 RLIN@1, 10 V+ (power), 11 E (out), 12 VREF (out), 13 B (out), 14 ZA, 15 ZA@1, 16 ZA@2

## XTR105P
designator IC?, comment 4-20mA Current Transmitter   with Sensor Excitation and Linearization
MPN: XTR105P; MF: TEXAS INSTRUMENT CONNECTORS; OC_FARNELL: 1461141; OC_NEWARK: 77C3629
footprint DIL14
pins: 1 IR1, 2 -IN, 3 RG, 4 RG@1, 5 NC, 6 IRET, 7 OUT (out), 8 E (out), 9 B (out), 10 V+ (power), 11 VREG (out), 12 VLIN, 13 +IN, 14 IR2

## XTR105U
designator IC?, comment 4-20mA Current Transmitter   with Sensor Excitation and Linearization
MPN: XTR105U; MF: TEXAS INSTRUMENTS; OC_FARNELL: 1212353; OC_NEWARK: 33C4287
footprint SO14
pins: 1 IR1, 2 -IN, 3 RG, 4 RG@1, 5 NC, 6 IRET, 7 OUT (out), 8 E (out), 9 B (out), 10 V+ (power), 11 VREG (out), 12 VLIN, 13 +IN, 14 IR2

## XTR110A
designator IC?, comment Precision Voltage-To-Current Converter/Transmitter  (value not drawn)
MPN: XTR110AG; MF: TEXAS INSTRUMENT CONNECTORS; OC_FARNELL: 1652416; OC_NEWARK: 04M4626
footprint DIL16
part A pins: 1 SRES, 3 VREF_IN, 4 VIN(10), 5 VIN(5V), 6 OFFSET2, 7 OFFSET1, 8 SPAN, 9 16MASPAN, 10 4MASPAN, 11 V_ADJUST, 12 V_SENSE, 13 SSENSE, 14 GATE, 15 V_FORCE
part B pins: 2 GND (power), 16 VCC (power)